# Altium footprint library PcbLib1.PcbLib: 59 footprints (part 2 of 4)
Each footprint in its own frame and in the unit in brackets; x right, y up, seen from the top. Pads: shape width x height; smd on the part's side, far side on the other; paste and mask are expansions set on the pad; w line width, h text height; cw(c..) or ccw(c..) is an arc to the next point about the centre after c.
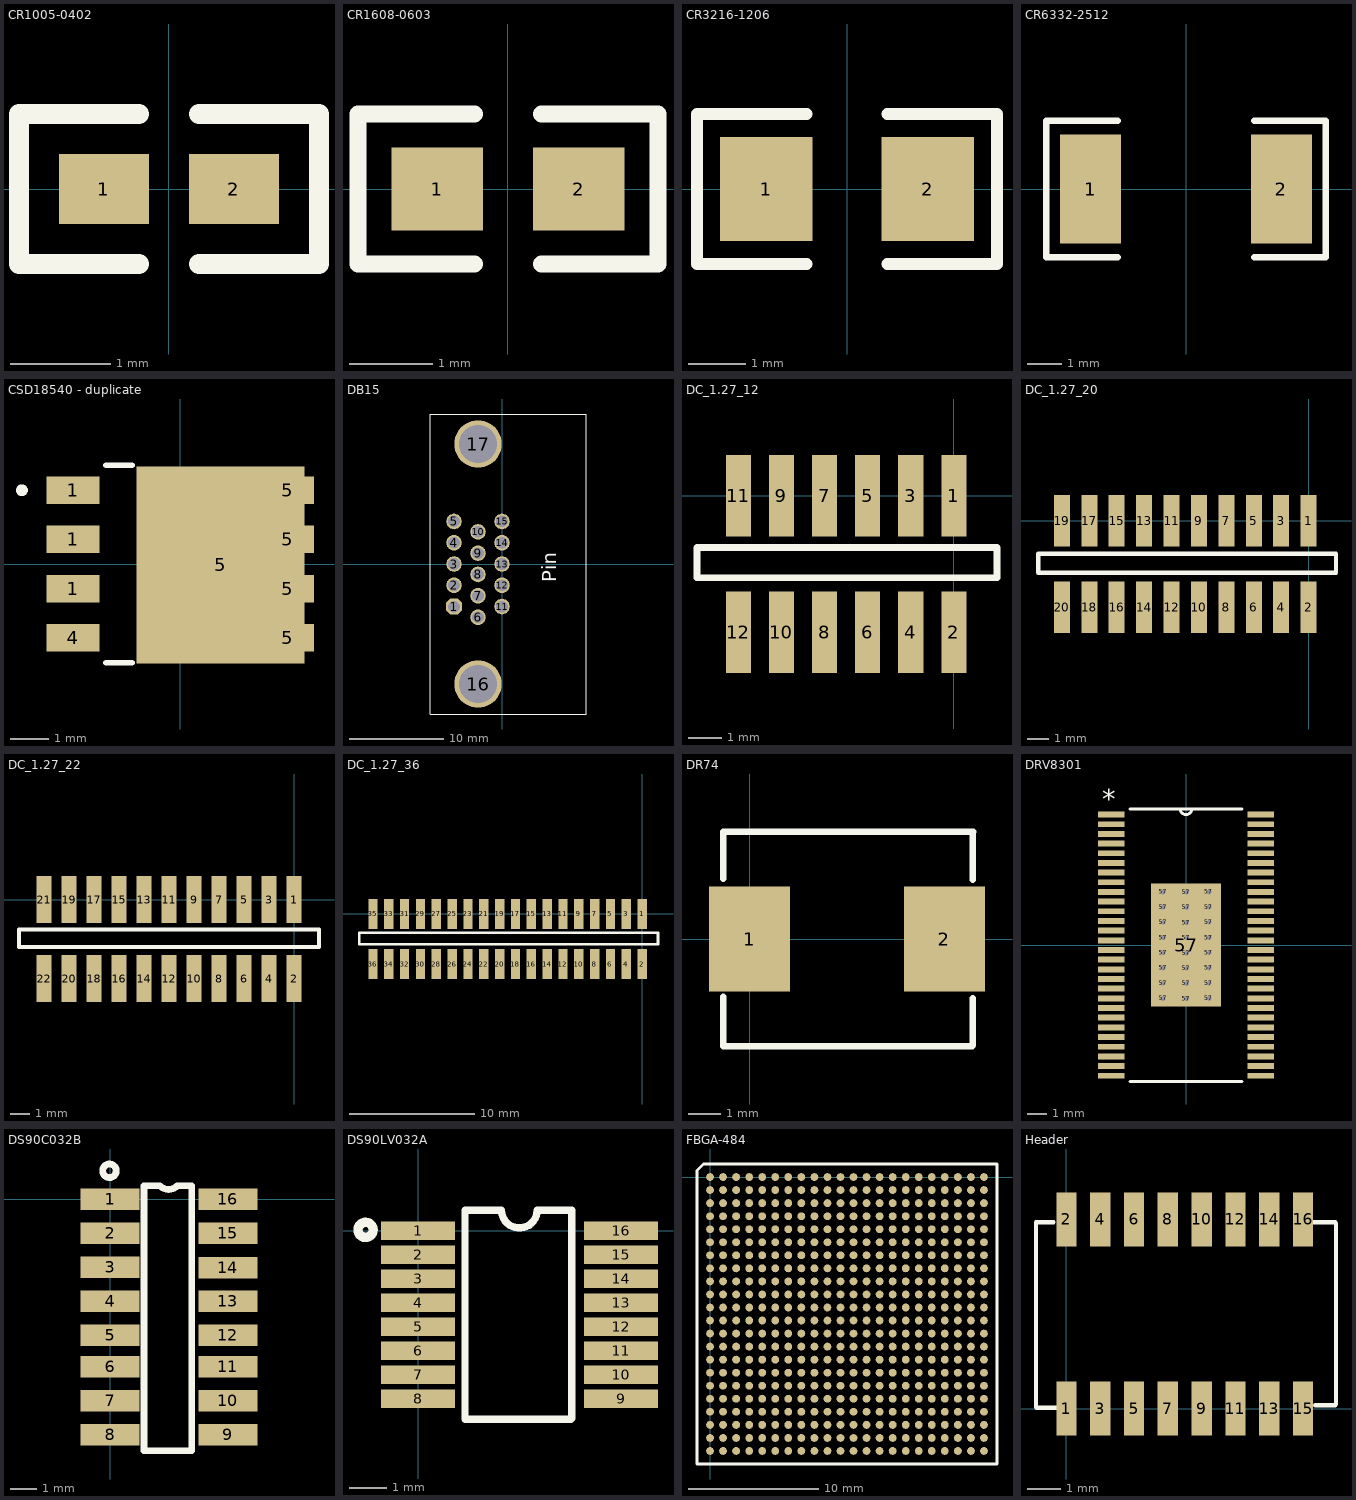
[diagram p1: the footprints below, top view; thin cyan lines are the x and y axes]

## CR1005-0402 [mm]
pads (2):
  rect 0.9x0.7 smd: 1(-0.65,0) 2(0.65,0)
Top Overlay:
  lines w0.2: -0.3,-0.75 -1.5,-0.75 -1.5,0.75 -0.3,0.75 ; 0.3,-0.75 1.5,-0.75 1.5,0.75 0.3,0.75

## CR1608-0603 [mm]
pads (2):
  rect 1.1x1 smd: 1(-0.85,0) 2(0.85,0)
Top Overlay:
  lines w0.2: -0.4,-0.9 -1.8,-0.9 -1.8,0.9 -0.4,0.9 ; 0.4,-0.9 1.8,-0.9 1.8,0.9 0.4,0.9

## CR3216-1206 [mm]
pads (2):
  rect 1.6x1.8 smd: 1(-1.4,0) 2(1.4,0)
Top Overlay:
  lines w0.2: -0.7,-1.3 -2.6,-1.3 -2.6,1.3 -0.7,1.3 ; 0.7,-1.3 2.6,-1.3 2.6,1.3 0.7,1.3

## CR6332-2512 [mm]
pads (2):
  rect 1.8x3.2 smd: 1(-2.8,0) 2(2.8,0)
Top Overlay:
  lines w0.2: -2,-2 -4.1,-2 -4.1,2 -2,2 ; 2,-2 4.1,-2 4.1,2 2,2

## CSD18540 - duplicate [mm]
pads (9):
  rect 1.372x0.71 smd paste-0.673: 1(-2.77,-0.635) 1(-2.77,0.635) 1(-2.77,1.905) 4(-2.77,-1.905) 5(2.77,-1.905) 5(2.77,-0.635) 5(2.77,0.635) 5(2.77,1.905)
  rect 4.343x5.08 smd: 5(1.041,-0.025)
Top Overlay:
  circle w0.152: c-4.091,1.905 r0.076
  lines w0.152: -1.921,-2.55 -1.248,-2.55 ; -1.921,2.55 -1.248,2.55

## DB15 [mil]
pads (17):
  oct 65x65 hole 48: 1(-200,-177.16)
  round 65 hole 48: 2(-200,-88.58) 3(-200,0) 4(-200,88.58) 5(-200,177.16) 6(-100,-222) 7(-100,-132.16) 8(-100,-43.58) 9(-100,45) 10(-100,133.58) 11(0,-177.16) 12(0,-88.58) 13(0,0) 14(0,88.58) 15(0,177.16)
  round 196.85 hole 157.48: 16(-100,-500) 17(-100,500)
Top Overlay:
  lines w5: -300,-625 -300,625 350,625 350,-625 -300,-625
  text "Pin" at 225,-75 h60

## DC_1.27_12 [mm]
pads (12):
  rect 0.74x2.4 smd: 1(0,0) 2(0,-4.013) 3(-1.27,0) 4(-1.27,-4.013) 5(-2.54,0) 6(-2.54,-4.013) 7(-3.81,0) 8(-3.81,-4.013) 9(-5.08,0) 10(-5.08,-4.013) 11(-6.35,0) 12(-6.35,-4.013)
Top Overlay:
  lines w0.203: -7.569,-2.413 1.27,-2.413 1.27,-1.524 -7.569,-1.524 -7.569,-2.413

## DC_1.27_20 [mm]
pads (20):
  rect 0.74x2.4 smd: 1(0,0) 2(0,-4.013) 3(-1.27,0) 4(-1.27,-4.013) 5(-2.54,0) 6(-2.54,-4.013) 7(-3.81,0) 8(-3.81,-4.013) 9(-5.08,0) 10(-5.08,-4.013) 11(-6.35,0) 12(-6.35,-4.013) 13(-7.62,0) 14(-7.62,-4.013) 15(-8.89,0) 16(-8.89,-4.013) 17(-10.16,0) 18(-10.16,-4.013) 19(-11.43,0) 20(-11.43,-4.013)
Top Overlay:
  lines w0.203: -12.522,-2.413 -12.522,-1.524 1.27,-1.524 1.27,-2.413 -12.522,-2.413

## DC_1.27_22 [mm]
pads (22):
  rect 0.74x2.4 smd: 1(0,0) 2(0,-4.013) 3(-1.27,0) 4(-1.27,-4.013) 5(-2.54,0) 6(-2.54,-4.013) 7(-3.81,0) 8(-3.81,-4.013) 9(-5.08,0) 10(-5.08,-4.013) 11(-6.35,0) 12(-6.35,-4.013) 13(-7.62,0) 14(-7.62,-4.013) 15(-8.89,0) 16(-8.89,-4.013) 17(-10.16,0) 18(-10.16,-4.013) 19(-11.43,0) 20(-11.43,-4.013) 21(-12.7,0) 22(-12.7,-4.013)
Top Overlay:
  lines w0.203: -13.97,-2.413 -13.97,-1.524 1.27,-1.524 1.27,-2.413 -13.97,-2.413

## DC_1.27_36 [mm]
pads (36):
  rect 0.74x2.4 smd: 1(0,0) 2(0,-4.013) 3(-1.27,0) 4(-1.27,-4.013) 5(-2.54,0) 6(-2.54,-4.013) 7(-3.81,0) 8(-3.81,-4.013) 9(-5.08,0) 10(-5.08,-4.013) 11(-6.35,0) 12(-6.35,-4.013) 13(-7.62,0) 14(-7.62,-4.013) 15(-8.89,0) 16(-8.89,-4.013) 17(-10.16,0) 18(-10.16,-4.013) 19(-11.43,0) 20(-11.43,-4.013) 21(-12.7,0) 22(-12.7,-4.013) 23(-13.97,0) 24(-13.97,-4.013) 25(-15.24,0) 26(-15.24,-4.013) 27(-16.51,0) 28(-16.51,-4.013) 29(-17.78,0) 30(-17.78,-4.013) 31(-19.05,0) 32(-19.05,-4.013) 33(-20.32,0) 34(-20.32,-4.013) 35(-21.59,0) 36(-21.59,-4.013)
Top Overlay:
  lines w0.203: -22.708,-2.413 -22.708,-1.524 1.27,-1.524 1.27,-2.413 -22.708,-2.413

## DR74 [mm]
pads (2):
  rect 2.5x3.25 smd: 1(0,0) 2(6,0)
Top Overlay:
  lines w0.2: -0.813,-1.778 -0.813,-3.3 6.856,-3.3 6.883,-3.273 6.883,-1.829 ; -0.813,1.854 -0.813,3.073 -0.813,3.3 6.885,3.3 6.883,3.298 6.883,1.829

## DRV8301 [mil]
pads (81):
  rect 54x12 smd: 1(-152.5,265.75) 2(-152.5,246.06) 3(-152.5,226.38) 4(-152.5,206.69) 5(-152.5,187.01) 6(-152.5,167.32) 7(-152.5,147.64) 8(-152.5,127.95) 9(-152.5,108.27) 10(-152.5,88.58) 11(-152.5,68.9) 12(-152.5,49.21) 13(-152.5,29.53) 14(-152.5,9.84) 15(-152.5,-9.84) 16(-152.5,-29.53) 17(-152.5,-49.21) 18(-152.5,-68.9) 19(-152.5,-88.58) 20(-152.5,-108.27) 21(-152.5,-127.95) 22(-152.5,-147.64) 23(-152.5,-167.32) 24(-152.5,-187.01) 25(-152.5,-206.69) 26(-152.5,-226.38) 27(-152.5,-246.06) 28(-152.5,-265.75) 29(152.5,-265.75) 30(152.5,-246.06) 31(152.5,-226.38) 32(152.5,-206.69) 33(152.5,-187.01) 34(152.5,-167.32) 35(152.5,-147.64) 36(152.5,-127.95) 37(152.5,-108.27) 38(152.5,-88.58) 39(152.5,-68.9) 40(152.5,-49.21) 41(152.5,-29.53) 42(152.5,-9.84) 43(152.5,9.84) 44(152.5,29.53) 45(152.5,49.21) 46(152.5,68.9) 47(152.5,88.58) 48(152.5,108.27) 49(152.5,127.95) 50(152.5,147.64) 51(152.5,167.32) 52(152.5,187.01) 53(152.5,206.69) 54(152.5,226.38) 55(152.5,246.06) 56(152.5,265.75)
  round 20 / inner round 60 / far side round 20 hole 10: 57(-46.5,-108.5) 57(-46.5,-77.5) 57(-46.5,-46.5) 57(-46.5,-15.5) 57(-46.5,15.5) 57(-46.5,46.5) 57(-46.5,77.5) 57(-46.5,108.5) 57(1,-109) 57(1,-78) 57(1,-47) 57(1,-16) 57(1,15) 57(1,46) 57(1,77) 57(1,108) 57(46.5,-108.5) 57(46.5,-77.5) 57(46.5,-46.5) 57(46.5,-15.5) 57(46.5,15.5) 57(46.5,46.5) 57(46.5,77.5) 57(46.5,108.5)
  rect 142.13x250 smd mask-124.5: 57(0,0)
Top Overlay:
  lines w6: -113.73,-277.5 113.73,-277.5 ; -113.73,277.5 113.73,277.5 ; -12,277.5 ccw(c0,277.5) 12,277.5
  text "*" at -170.5,277.75 h40

## DS90C032B [mm]
pads (16):
  rect 2.2x0.8 smd: 1(0,0) 2(0,-1.27) 3(0,-2.54) 4(0,-3.81) 5(0,-5.08) 6(0,-6.25) 7(0,-7.52) 8(0,-8.79) 9(4.4,-8.79) 10(4.4,-7.52) 11(4.4,-6.25) 12(4.4,-5.08) 13(4.4,-3.81) 14(4.4,-2.56) 15(4.4,-1.27) 16(4.4,0)
Top Overlay:
  circle w0.254: c-0.025,1.067 r0.254
  lines w0.254: 1.27,0.508 1.27,-9.398 3.048,-9.398 3.048,0.508 2.515,0.508 cw(c2.184,0.838) 1.854,0.508 1.295,0.508

## DS90LV032A [mm]
pads (16):
  rect 2x0.5 smd: 1(0,0) 2(0,-0.65) 3(0,-1.3) 4(0,-1.95) 5(0,-2.6) 6(0,-3.25) 7(0,-3.9) 8(0,-4.55) 9(5.5,-4.55) 10(5.5,-3.9) 11(5.5,-3.25) 12(5.5,-2.6) 13(5.5,-1.95) 14(5.5,-1.3) 15(5.5,-0.65) 16(5.5,0)
Top Overlay:
  circle w0.254: c-1.422,0.025 r0.205
  lines w0.2: 4.14,0.559 3.226,0.559 cw(c2.743,0.559) 2.261,0.559 1.27,0.559 1.27,-5.105 4.14,-5.105 4.166,-5.08 4.166,0.559

## FBGA-484 [mm]
pads (484):
  round 0.6 smd: A1(0,0) A2(1,0) A3(2,0) A4(3,0) A5(4,0) A6(5,0) A7(6,0) A8(7,0) A9(8,0) A10(9,0) A11(10,0) A12(11,0) A13(12,0) A14(13,0) A15(14,0) A16(15,0) A17(16,0) A18(17,0) A19(18,0) A20(19,0) A21(20,0) A22(21,0) AA1(0,-20) AA2(1,-20) AA3(2,-20) AA4(3,-20) AA5(4,-20) AA6(5,-20) AA7(6,-20) AA8(7,-20) AA9(8,-20) AA10(9,-20) AA11(10,-20) AA12(11,-20) AA13(12,-20) AA14(13,-20) AA15(14,-20) AA16(15,-20) AA17(16,-20) AA18(17,-20) AA19(18,-20) AA20(19,-20) AA21(20,-20) AA22(21,-20) AB1(0,-21) AB2(1,-21) AB3(2,-21) AB4(3,-21) AB5(4,-21) AB6(5,-21) AB7(6,-21) AB8(7,-21) AB9(8,-21) AB10(9,-21) AB11(10,-21) AB12(11,-21) AB13(12,-21) AB14(13,-21) AB15(14,-21) AB16(15,-21) AB17(16,-21) AB18(17,-21) AB19(18,-21) AB20(19,-21) AB21(20,-21) AB22(21,-21) B1(0,-1) B2(1,-1) B3(2,-1) B4(3,-1) B5(4,-1) B6(5,-1) B7(6,-1) B8(7,-1) B9(8,-1) B10(9,-1) B11(10,-1) B12(11,-1) B13(12,-1) B14(13,-1) B15(14,-1) B16(15,-1) B17(16,-1) B18(17,-1) B19(18,-1) B20(19,-1) B21(20,-1) B22(21,-1) C1(0,-2) C2(1,-2) C3(2,-2) C4(3,-2) C5(4,-2) C6(5,-2) C7(6,-2) C8(7,-2) C9(8,-2) C10(9,-2) C11(10,-2) C12(11,-2) C13(12,-2) C14(13,-2) C15(14,-2) C16(15,-2) C17(16,-2) C18(17,-2) C19(18,-2) C20(19,-2) C21(20,-2) C22(21,-2) D1(0,-3) D2(1,-3) D3(2,-3) D4(3,-3) D5(4,-3) D6(5,-3) D7(6,-3) D8(7,-3) D9(8,-3) D10(9,-3) D11(10,-3) D12(11,-3) D13(12,-3) D14(13,-3) D15(14,-3) D16(15,-3) D17(16,-3) D18(17,-3) D19(18,-3) D20(19,-3) D21(20,-3) D22(21,-3) E1(0,-4) E2(1,-4) E3(2,-4) E4(3,-4) E5(4,-4) E6(5,-4) E7(6,-4) E8(7,-4) E9(8,-4) E10(9,-4) E11(10,-4) E12(11,-4) E13(12,-4) E14(13,-4) E15(14,-4) E16(15,-4) E17(16,-4) E18(17,-4) E19(18,-4) E20(19,-4) E21(20,-4) E22(21,-4) F1(0,-5) F2(1,-5) F3(2,-5) F4(3,-5) F5(4,-5) F6(5,-5) F7(6,-5) F8(7,-5) F9(8,-5) F10(9,-5) F11(10,-5) F12(11,-5) F13(12,-5) F14(13,-5) F15(14,-5) F16(15,-5) F17(16,-5) F18(17,-5) F19(18,-5) F20(19,-5) F21(20,-5) F22(21,-5) G1(0,-6) G2(1,-6) G3(2,-6) G4(3,-6) G5(4,-6) G6(5,-6) G7(6,-6) G8(7,-6) G9(8,-6) G10(9,-6) G11(10,-6) G12(11,-6) G13(12,-6) G14(13,-6) G15(14,-6) G16(15,-6) G17(16,-6) G18(17,-6) G19(18,-6) G20(19,-6) G21(20,-6) G22(21,-6) H1(0,-7) H2(1,-7) H3(2,-7) H4(3,-7) H5(4,-7) H6(5,-7) H7(6,-7) H8(7,-7) H9(8,-7) H10(9,-7) H11(10,-7) H12(11,-7) H13(12,-7) H14(13,-7) H15(14,-7) H16(15,-7) H17(16,-7) H18(17,-7) H19(18,-7) H20(19,-7) H21(20,-7) H22(21,-7) J1(0,-8) J2(1,-8) J3(2,-8) J4(3,-8) J5(4,-8) J6(5,-8) J7(6,-8) J8(7,-8) J9(8,-8) J10(9,-8) J11(10,-8) J12(11,-8) J13(12,-8) J14(13,-8) J15(14,-8) J16(15,-8) J17(16,-8) J18(17,-8) J19(18,-8) J20(19,-8) J21(20,-8) J22(21,-8) K1(0,-9) K2(1,-9) K3(2,-9) K4(3,-9) K5(4,-9) K6(5,-9) K7(6,-9) K8(7,-9) K9(8,-9) K10(9,-9) K11(10,-9) K12(11,-9) K13(12,-9) K14(13,-9) K15(14,-9) K16(15,-9) K17(16,-9) K18(17,-9) K19(18,-9) K20(19,-9) K21(20,-9) K22(21,-9) L1(0,-10) L2(1,-10) L3(2,-10) L4(3,-10) L5(4,-10) L6(5,-10) L7(6,-10) L8(7,-10) L9(8,-10) L10(9,-10) L11(10,-10) L12(11,-10) L13(12,-10) L14(13,-10) L15(14,-10) L16(15,-10) L17(16,-10) L18(17,-10) L19(18,-10) L20(19,-10) L21(20,-10) L22(21,-10) M1(0,-11) M2(1,-11) M3(2,-11) M4(3,-11) M5(4,-11) M6(5,-11) M7(6,-11) M8(7,-11) M9(8,-11) M10(9,-11) M11(10,-11) M12(11,-11) M13(12,-11) M14(13,-11) M15(14,-11) M16(15,-11) M17(16,-11) M18(17,-11) M19(18,-11) M20(19,-11) M21(20,-11) M22(21,-11) N1(0,-12) N2(1,-12) N3(2,-12) N4(3,-12) N5(4,-12) N6(5,-12) N7(6,-12) N8(7,-12) N9(8,-12) N10(9,-12) N11(10,-12) N12(11,-12) N13(12,-12) N14(13,-12) N15(14,-12) N16(15,-12) N17(16,-12) N18(17,-12) N19(18,-12) N20(19,-12) N21(20,-12) N22(21,-12) P1(0,-13) P2(1,-13) P3(2,-13) P4(3,-13) P5(4,-13) P6(5,-13) P7(6,-13) P8(7,-13) P9(8,-13) P10(9,-13) P11(10,-13) P12(11,-13) P13(12,-13) P14(13,-13) P15(14,-13) P16(15,-13) P17(16,-13) P18(17,-13) P19(18,-13) P20(19,-13) P21(20,-13) P22(21,-13) R1(0,-14) R2(1,-14) R3(2,-14) R4(3,-14) R5(4,-14) R6(5,-14) R7(6,-14) R8(7,-14) R9(8,-14) R10(9,-14) R11(10,-14) R12(11,-14) R13(12,-14) R14(13,-14) R15(14,-14) R16(15,-14) R17(16,-14) R18(17,-14) R19(18,-14) R20(19,-14) R21(20,-14) R22(21,-14) T1(0,-15) T2(1,-15) T3(2,-15) T4(3,-15) T5(4,-15) T6(5,-15) T7(6,-15) T8(7,-15) T9(8,-15) T10(9,-15) T11(10,-15) T12(11,-15) T13(12,-15) T14(13,-15) T15(14,-15) T16(15,-15) T17(16,-15) T18(17,-15) T19(18,-15) T20(19,-15) T21(20,-15) T22(21,-15) U1(0,-16) U2(1,-16) U3(2,-16) U4(3,-16) U5(4,-16) U6(5,-16) U7(6,-16) U8(7,-16) U9(8,-16) U10(9,-16) U11(10,-16) U12(11,-16) U13(12,-16) U14(13,-16) U15(14,-16) U16(15,-16) U17(16,-16) U18(17,-16) U19(18,-16) U20(19,-16) U21(20,-16) U22(21,-16) V1(0,-17) V2(1,-17) V3(2,-17) V4(3,-17) V5(4,-17) V6(5,-17) V7(6,-17) V8(7,-17) V9(8,-17) V10(9,-17) V11(10,-17) V12(11,-17) V13(12,-17) V14(13,-17) V15(14,-17) V16(15,-17) V17(16,-17) V18(17,-17) V19(18,-17) V20(19,-17) V21(20,-17) V22(21,-17) W1(0,-18) W2(1,-18) W3(2,-18) W4(3,-18) W5(4,-18) W6(5,-18) W7(6,-18) W8(7,-18) W9(8,-18) W10(9,-18) W11(10,-18) W12(11,-18) W13(12,-18) W14(13,-18) W15(14,-18) W16(15,-18) W17(16,-18) W18(17,-18) W19(18,-18) W20(19,-18) W21(20,-18) W22(21,-18) Y1(0,-19) Y2(1,-19) Y3(2,-19) Y4(3,-19) Y5(4,-19) Y6(5,-19) Y7(6,-19) Y8(7,-19) Y9(8,-19) Y10(9,-19) Y11(10,-19) Y12(11,-19) Y13(12,-19) Y14(13,-19) Y15(14,-19) Y16(15,-19) Y17(16,-19) Y18(17,-19) Y19(18,-19) Y20(19,-19) Y21(20,-19) Y22(21,-19)
Top Overlay:
  lines w0.25: -1,-22 -1,0.5 -0.5,1 22,1 22,-22 -1,-22

## Header [mm]
pads (16):
  rect 0.6x1.6 smd: 1(0,0) 2(0,5.6) 3(1,0) 4(1,5.6) 5(2,0) 6(2,5.6) 7(3,0) 8(3,5.6) 9(4,0) 10(4,5.6) 11(5,0) 12(5,5.6) 13(6,0) 14(6,5.6) 15(7,0) 16(7,5.6)
Top Overlay:
  lines w0.127: -0.381,5.512 -0.9,5.512 -0.9,0.04 -0.886,0.025 -0.305,0.025 ; 7.315,5.512 7.95,5.512 7.976,5.486 7.976,0.127 7.95,0.102 7.366,0.102